# Altium schematic symbol library NEC Control.SchLib: 1 symbol
Pins are listed as number, name and electrical type; pins without a type are passive.

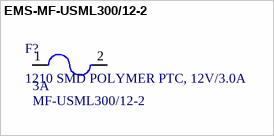
[diagram p0: symbol EMS-MF-USML300/12-2]

## EMS-MF-USML300/12-2
designator F?, comment 1210 SMD POLYMER PTC, 12V/3.0A  value MF-USML300/12-2  2nd Auxiliary Field: 3A
Internal Part Number: EMS-MF-USML300/12-2; Manufacturer: Bourns Inc.; Vendor Part Number: MF-USML300/12-2CT-ND; 1st Auxiliary Field: 12V; 3rd Auxiliary Field: ROHS3 Compliant; Component Height (mm): 1.20mm; Temp Co: -40°C ~ 85°C; Vendor Name: Digi-Key; 4th Auxiliary Field: *; Manufacturer Part Number: MF-USML300/12-2; Part Type: 1210 SMD POLYMER PTC, 12V/3.0A
footprint SMDF1210
pins: 1, 2